# EAGLE library part 691412120008 (library Wurth_Elektronik_Electromechanic_Terminal_Blocks_Connectors_rev15c)
WR-TBL Serie 412 - 3.5mm Screwless 45° Entry Grey - 1.5mm2 Wires, 8 Pins
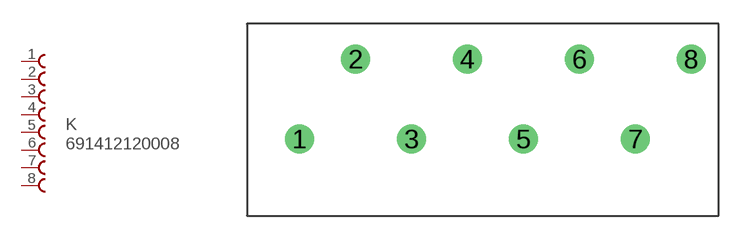
[diagram p215: symbol with the pads of 691412120008; footprint 691412120008]

Designator prefix K

## 691412120008  [691412120008]
1  1  pas
2  2  pas
3  3  pas
4  4  pas
5  5  pas
6  6  pas
7  7  pas
8  8  pas

## Footprint 691412120008 (pad centres in mm)
WR-TBL Serie 412 - 3.5mm Screwless 45° Entry Grey - 1.5mm2 Wires, 8 Pins
drill 1.2: 1 -20.97,0; 2 -17.47,5; 3 -13.97,0; 4 -10.47,5; 5 -6.97,0; 6 -3.47,5; 7 0.03,0; 8 3.53,5